# Altium schematic symbol library mcu.SchLib: 1 symbol
Pins are listed as number, name and electrical type; pins without a type are passive.

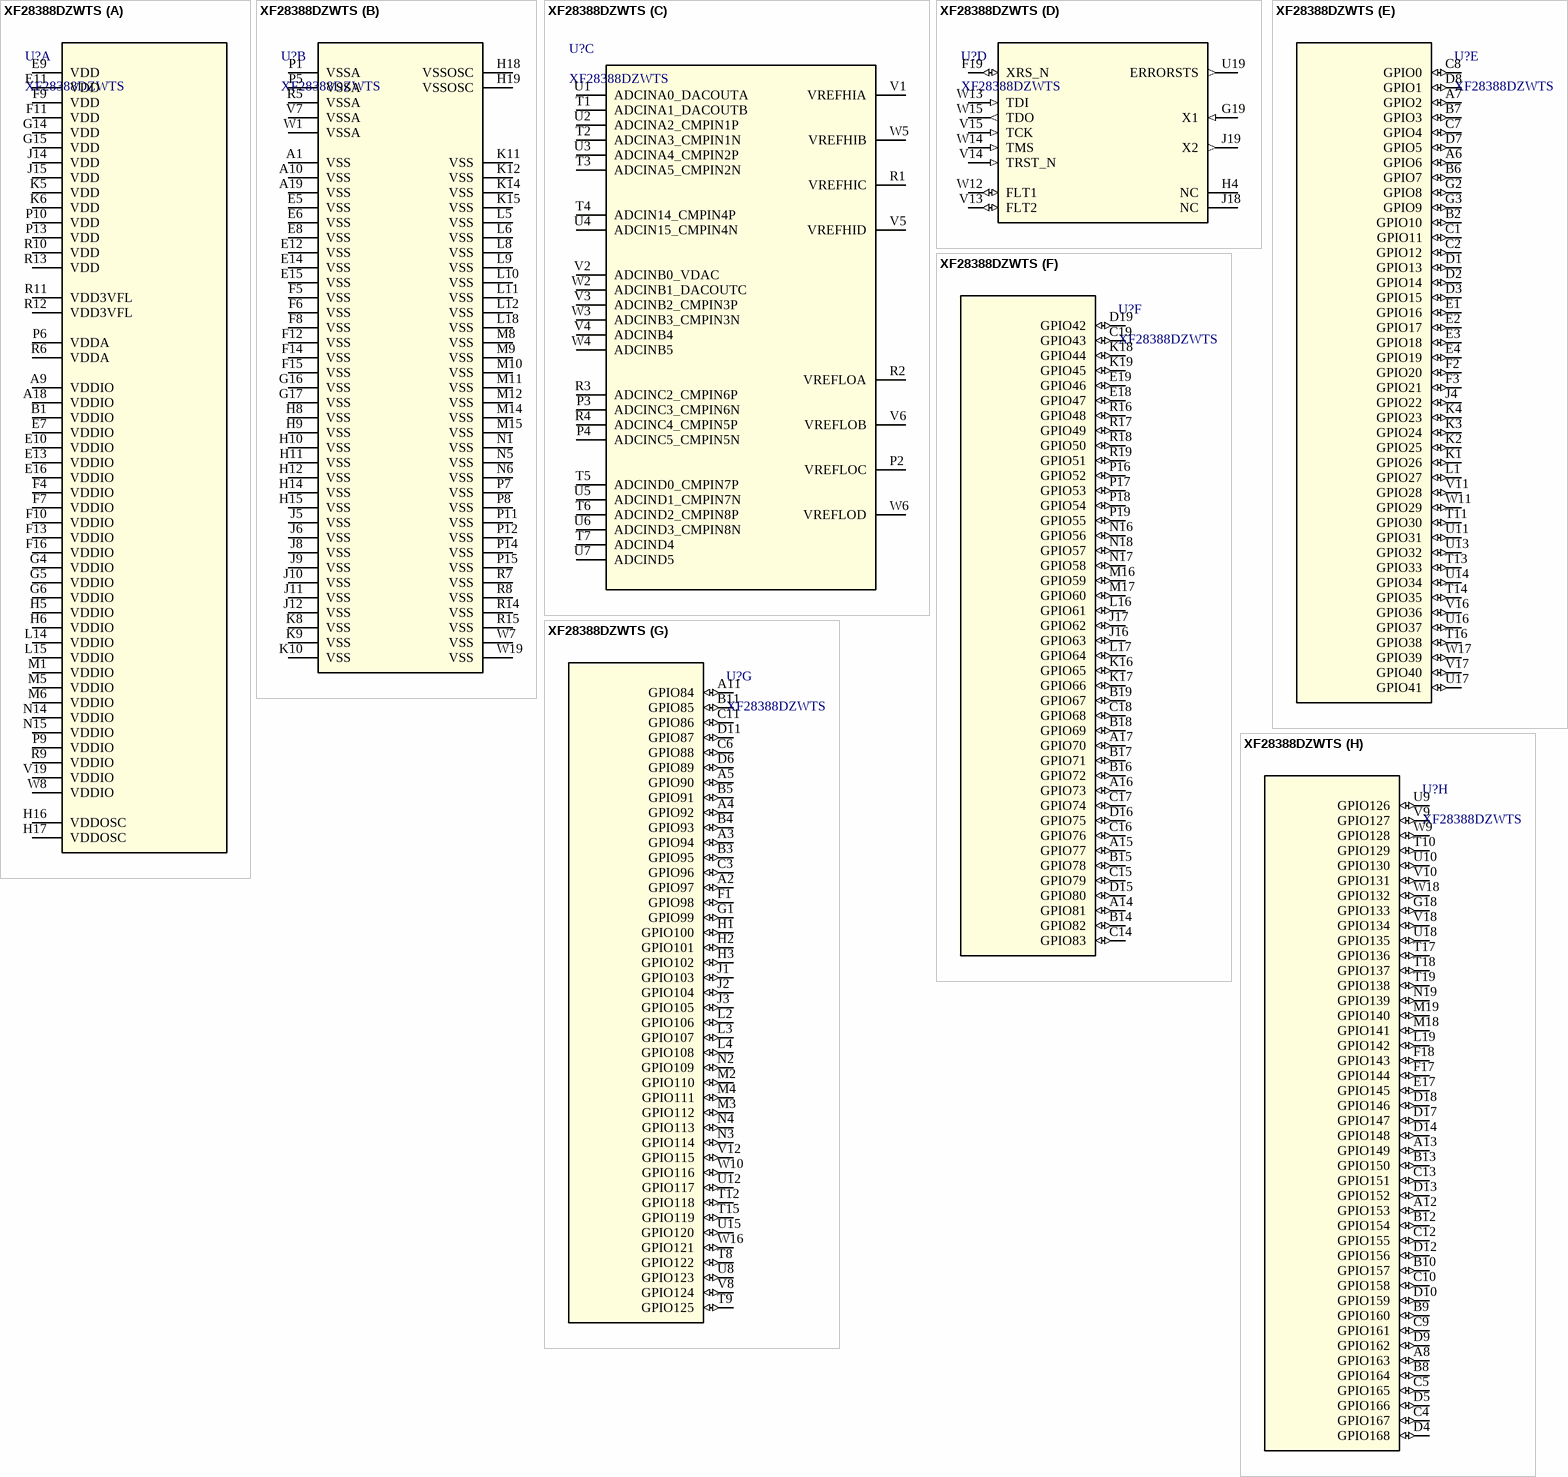
[diagram p0: symbol XF28388DZWTS]

## XF28388DZWTS
designator U?
C2000 32-bit MCU w/ connectivity manager, 2x C28x+CLA CPU, 1.5 MB flash, FPU64, CLB, ENET, EtherCAT 337-NFBGA -40 to 125; Manufacturer_Name: Texas Instruments; TYPE: TYPE; RefDes: RefDes; Copyright: Copyright (C) 2026 Ultra Librarian. All rights reserved.; Manufacturer_Part_Number: XF28388DZWTS
footprint ZWT0337A-MFG
part A pins: A9 VDDIO (power), A18 VDDIO (power), B1 VDDIO (power), E7 VDDIO (power), E9 VDD (power), E10 VDDIO (power), E11 VDD (power), E13 VDDIO (power), E16 VDDIO (power), F4 VDDIO (power), F7 VDDIO (power), F9 VDD (power), F10 VDDIO (power), F11 VDD (power), F13 VDDIO (power), F16 VDDIO (power), G4 VDDIO (power), G5 VDDIO (power), G6 VDDIO (power), G14 VDD (power), G15 VDD (power), H5 VDDIO (power), H6 VDDIO (power), H16 VDDOSC (power), H17 VDDOSC (power), J14 VDD (power), J15 VDD (power), K5 VDD (power), K6 VDD (power), L14 VDDIO (power), L15 VDDIO (power), M1 VDDIO (power), M5 VDDIO (power), M6 VDDIO (power), N14 VDDIO (power), N15 VDDIO (power), P6 VDDA (power), P9 VDDIO (power), P10 VDD (power), P13 VDD (power), R6 VDDA (power), R9 VDDIO (power), R10 VDD (power), R11 VDD3VFL (power), R12 VDD3VFL (power), R13 VDD (power), V19 VDDIO (power), W8 VDDIO (power)
part B pins: A1 VSS (power), A10 VSS (power), A19 VSS (power), E5 VSS (power), E6 VSS (power), E8 VSS (power), E12 VSS (power), E14 VSS (power), E15 VSS (power), F5 VSS (power), F6 VSS (power), F8 VSS (power), F12 VSS (power), F14 VSS (power), F15 VSS (power), G16 VSS (power), G17 VSS (power), H8 VSS (power), H9 VSS (power), H10 VSS (power), H11 VSS (power), H12 VSS (power), H14 VSS (power), H15 VSS (power), H18 VSSOSC (power), H19 VSSOSC (power), J5 VSS (power), J6 VSS (power), J8 VSS (power), J9 VSS (power), J10 VSS (power), J11 VSS (power), J12 VSS (power), K8 VSS (power), K9 VSS (power), K10 VSS (power), K11 VSS (power), K12 VSS (power), K14 VSS (power), K15 VSS (power), L5 VSS (power), L6 VSS (power), L8 VSS (power), L9 VSS (power), L10 VSS (power), L11 VSS (power), L12 VSS (power), L18 VSS (power), M8 VSS (power), M9 VSS (power), M10 VSS (power), M11 VSS (power), M12 VSS (power), M14 VSS (power), M15 VSS (power), N1 VSS (power), N5 VSS (power), N6 VSS (power), P1 VSSA (power), P5 VSSA (power), P7 VSS (power), P8 VSS (power), P11 VSS (power), P12 VSS (power), P14 VSS (power), P15 VSS (power), R5 VSSA (power), R7 VSS (power), R8 VSS (power), R14 VSS (power), R15 VSS (power), V7 VSSA (power), W1 VSSA (power), W7 VSS (power), W19 VSS (power)
part C pins: P2 VREFLOC, P3 ADCINC3_CMPIN6N, P4 ADCINC5_CMPIN5N, R1 VREFHIC, R2 VREFLOA, R3 ADCINC2_CMPIN6P, R4 ADCINC4_CMPIN5P, T1 ADCINA1_DACOUTB, T2 ADCINA3_CMPIN1N, T3 ADCINA5_CMPIN2N, T4 ADCIN14_CMPIN4P, T5 ADCIND0_CMPIN7P, T6 ADCIND2_CMPIN8P, T7 ADCIND4, U1 ADCINA0_DACOUTA, U2 ADCINA2_CMPIN1P, U3 ADCINA4_CMPIN2P, U4 ADCIN15_CMPIN4N, U5 ADCIND1_CMPIN7N, U6 ADCIND3_CMPIN8N, U7 ADCIND5, V1 VREFHIA, V2 ADCINB0_VDAC, V3 ADCINB2_CMPIN3P, V4 ADCINB4, V5 VREFHID, V6 VREFLOB, W2 ADCINB1_DACOUTC, W3 ADCINB3_CMPIN3N, W4 ADCINB5, W5 VREFHIB, W6 VREFLOD
part D pins: F19 XRS_N (io), G19 X1 (in), H4 NC, J18 NC, J19 X2 (out), U19 ERRORSTS (out), V13 FLT2 (io), V14 TRST_N (in), V15 TCK (in), W12 FLT1 (io), W13 TDI (in), W14 TMS (in), W15 TDO (out)
part E pins: A6 GPIO6 (io), A7 GPIO2 (io), B2 GPIO10 (io), B6 GPIO7 (io), B7 GPIO3 (io), C1 GPIO11 (io), C2 GPIO12 (io), C7 GPIO4 (io), C8 GPIO0 (io), D1 GPIO13 (io), D2 GPIO14 (io), D3 GPIO15 (io), D7 GPIO5 (io), D8 GPIO1 (io), E1 GPIO16 (io), E2 GPIO17 (io), E3 GPIO18 (io), E4 GPIO19 (io), F2 GPIO20 (io), F3 GPIO21 (io), G2 GPIO8 (io), G3 GPIO9 (io), J4 GPIO22 (io), K1 GPIO26 (io), K2 GPIO25 (io), K3 GPIO24 (io), K4 GPIO23 (io), L1 GPIO27 (io), T11 GPIO30 (io), T13 GPIO33 (io), T14 GPIO35 (io), T16 GPIO38 (io), U11 GPIO31 (io), U13 GPIO32 (io), U14 GPIO34 (io), U16 GPIO37 (io), U17 GPIO41 (io), V11 GPIO28 (io), V16 GPIO36 (io), V17 GPIO40 (io), W11 GPIO29 (io), W17 GPIO39 (io)
part F pins: A14 GPIO81 (io), A15 GPIO77 (io), A16 GPIO73 (io), A17 GPIO70 (io), B14 GPIO82 (io), B15 GPIO78 (io), B16 GPIO72 (io), B17 GPIO71 (io), B18 GPIO69 (io), B19 GPIO67 (io), C14 GPIO83 (io), C15 GPIO79 (io), C16 GPIO76 (io), C17 GPIO74 (io), C18 GPIO68 (io), C19 GPIO43 (io), D15 GPIO80 (io), D16 GPIO75 (io), D19 GPIO42 (io), E18 GPIO47 (io), E19 GPIO46 (io), J16 GPIO63 (io), J17 GPIO62 (io), K16 GPIO65 (io), K17 GPIO66 (io), K18 GPIO44 (io), K19 GPIO45 (io), L16 GPIO61 (io), L17 GPIO64 (io), M16 GPIO59 (io), M17 GPIO60 (io), N16 GPIO56 (io), N17 GPIO58 (io), N18 GPIO57 (io), P16 GPIO52 (io), P17 GPIO53 (io), P18 GPIO54 (io), P19 GPIO55 (io), R16 GPIO48 (io), R17 GPIO49 (io), R18 GPIO50 (io), R19 GPIO51 (io)
part G pins: A2 GPIO97 (io), A3 GPIO94 (io), A4 GPIO92 (io), A5 GPIO90 (io), A11 GPIO84 (io), B3 GPIO95 (io), B4 GPIO93 (io), B5 GPIO91 (io), B11 GPIO85 (io), C3 GPIO96 (io), C6 GPIO88 (io), C11 GPIO86 (io), D6 GPIO89 (io), D11 GPIO87 (io), F1 GPIO98 (io), G1 GPIO99 (io), H1 GPIO100 (io), H2 GPIO101 (io), H3 GPIO102 (io), J1 GPIO103 (io), J2 GPIO104 (io), J3 GPIO105 (io), L2 GPIO106 (io), L3 GPIO107 (io), L4 GPIO108 (io), M2 GPIO110 (io), M3 GPIO112 (io), M4 GPIO111 (io), N2 GPIO109 (io), N3 GPIO114 (io), N4 GPIO113 (io), T8 GPIO122 (io), T9 GPIO125 (io), T12 GPIO118 (io), T15 GPIO119 (io), U8 GPIO123 (io), U12 GPIO117 (io), U15 GPIO120 (io), V8 GPIO124 (io), V12 GPIO115 (io), W10 GPIO116 (io), W16 GPIO121 (io)
part H pins: A8 GPIO163 (io), A12 GPIO153 (io), A13 GPIO149 (io), B8 GPIO164 (io), B9 GPIO160 (io), B10 GPIO157 (io), B12 GPIO154 (io), B13 GPIO150 (io), C4 GPIO167 (io), C5 GPIO165 (io), C9 GPIO161 (io), C10 GPIO158 (io), C12 GPIO155 (io), C13 GPIO151 (io), D4 GPIO168 (io), D5 GPIO166 (io), D9 GPIO162 (io), D10 GPIO159 (io), D12 GPIO156 (io), D13 GPIO152 (io), D14 GPIO148 (io), D17 GPIO147 (io), D18 GPIO146 (io), E17 GPIO145 (io), F17 GPIO144 (io), F18 GPIO143 (io), G18 GPIO133 (io), L19 GPIO142 (io), M18 GPIO141 (io), M19 GPIO140 (io), N19 GPIO139 (io), T10 GPIO129 (io), T17 GPIO136 (io), T18 GPIO137 (io), T19 GPIO138 (io), U9 GPIO126 (io), U10 GPIO130 (io), U18 GPIO135 (io), V9 GPIO127 (io), V10 GPIO131 (io), V18 GPIO134 (io), W9 GPIO128 (io), W18 GPIO132 (io)